# Altium footprint library 1210p.PcbLib: 1 footprints
Each footprint in its own frame and in the unit in brackets; x right, y up, seen from the top. Pads: shape width x height; smd on the part's side, far side on the other; paste and mask are expansions set on the pad; w line width, h text height; cw(c..) or ccw(c..) is an arc to the next point about the centre after c.
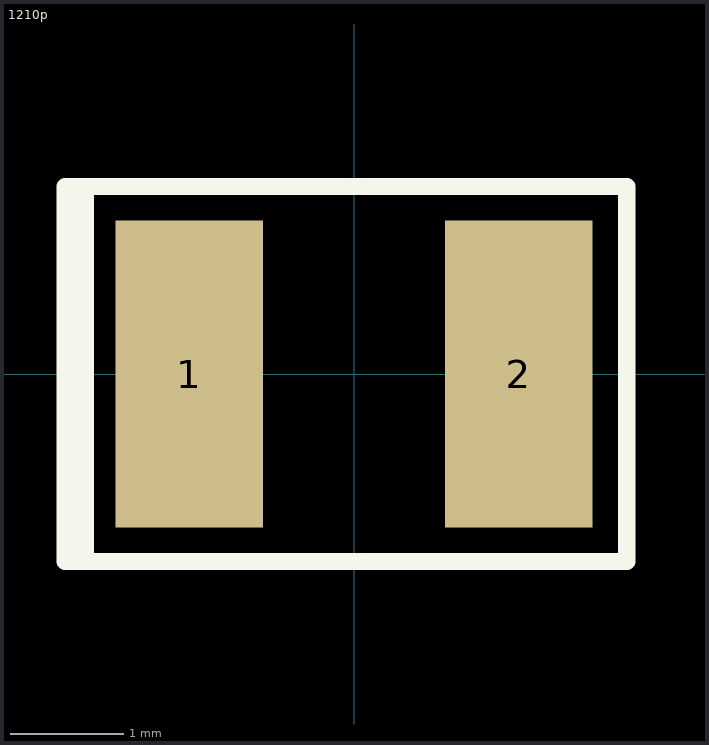
[diagram p0: the footprint, top view; thin cyan lines are the x and y axes]

## 1210p [mm] "Chip Capacitor; Body 3.2 x 2.5 mm (LxW typ) polarized"
height 1.7
pads (2):
  rect 1.3x2.7 smd: 1(-1.45,0) 2(1.45,0)
Top Overlay:
  rectangle: -2.54,-1.65 -2.286,1.65
  lines w0.152: -2.54,-1.65 2.4,-1.65 2.4,1.65 -2.54,1.65 -2.54,-1.65
3D body: height 2.2, standoff 0, extent -1.524,-1.27 -1.016,1.27
3D body: height 2.2, standoff 0, extent 1.016,-1.27 1.524,1.27
3D body: height 2.2, standoff 0, extent -1.016,-1.27 1.016,1.27